# EAGLE library part 750317589 (library Wurth_Power Magnetics_WE-OLLT)
WE-OLLT Offline Flyback Transformers Characteristics Flyback topology Designs for Universal, US and European input voltages Low leakage inductance Isolation voltage up to 4500VAC Operating temperature: –40 °C to +125 °C Most products meet reinforced insulation Applications Offline Applications High DC VIN Isolated Applications Offline Bus Converter (12V, 24V or 48V Outputs) Industrial power supplies Medical power supplies Auxiliary power supply Home appliances Consumer electronics <https://www.we-online.com/components/media/o784499v209%20FAMILY-MID-OLLT-mixed.jpg> Details see: www.we-online.com/en/components/products/WE-OLLT <www.we-online.com/catalog/WE-OLLT/?utm_source=eagle_model&utm_medium=description_link&utm_campaign=eisos_eagle> Created by Ella Wu 2024-07-03 2024 (C) Wurth Elektronik
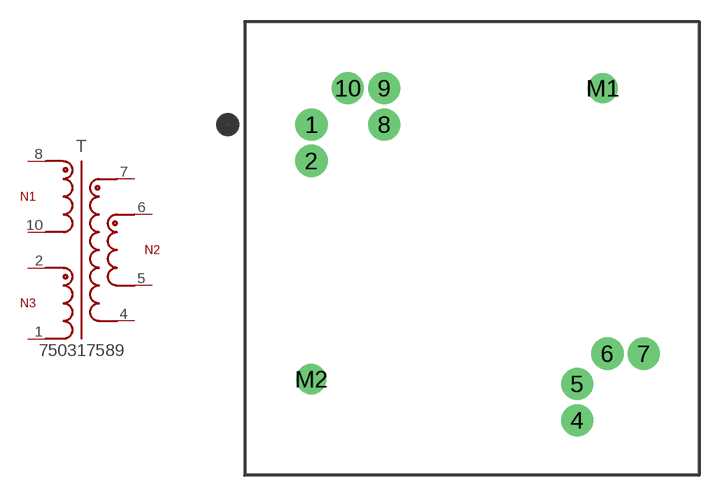
[diagram p17: symbol with the pads of WE-OLLT_RM10_L31.5W31.5W20.5; footprint WE-OLLT_RM10_L31.5W31.5W20.5]

Designator prefix T

## 750317589 (DATASHEET-URL: https://www.we-online.com/redexpert/spec/750317589?ae; FSWITCH: 140kHz; HEIGHT: 20.5mm; IOUT1: 3000A; ISAT: 3000V; L: 0.67uH; LENGTH: 31.5mm; MOUNT: THT; N: 8:1:1; PART-NUMBER: 750317589; SIZE: RM10; VALUE: 750317589; VAUX: 12V; VIN: 100 - 600 V (DC); VOUT1: 12V; VT: 3000V(AC); WIDTH: 31.5mm)  [WE-OLLT_RM10_L31.5W31.5W20.5]
1  1  pas
2  2  pas
4  4  pas
5  5  pas
6  6  pas
7  7  pas
8  8  pas
10  10  pas

## Footprint WE-OLLT_RM10_L31.5W31.5W20.5 (pad centres in mm)
WE-OLLT Offline Flyback Transformers Size: RM10,THT,10pins LXWXH=31.5X31.5X20.5mm
drill 1.5: 1 -10.16,7.62; 2 -10.16,5.08; 4 8.38,-13.03; 5 8.38,-10.49; 6 10.49,-8.38; 7 13.03,-8.38; 8 -5.08,7.62; 9 -5.08,10.16; 10 -7.62,10.16
drill 1.4: M1 10.16,10.16; M2 -10.16,-10.16